# Altium footprint library Cap-Elec-8x9pcb.PcbLib: 1 footprints
Each footprint in its own frame and in the unit in brackets; x right, y up, seen from the top. Pads: shape width x height; smd on the part's side, far side on the other; paste and mask are expansions set on the pad; w line width, h text height; cw(c..) or ccw(c..) is an arc to the next point about the centre after c.
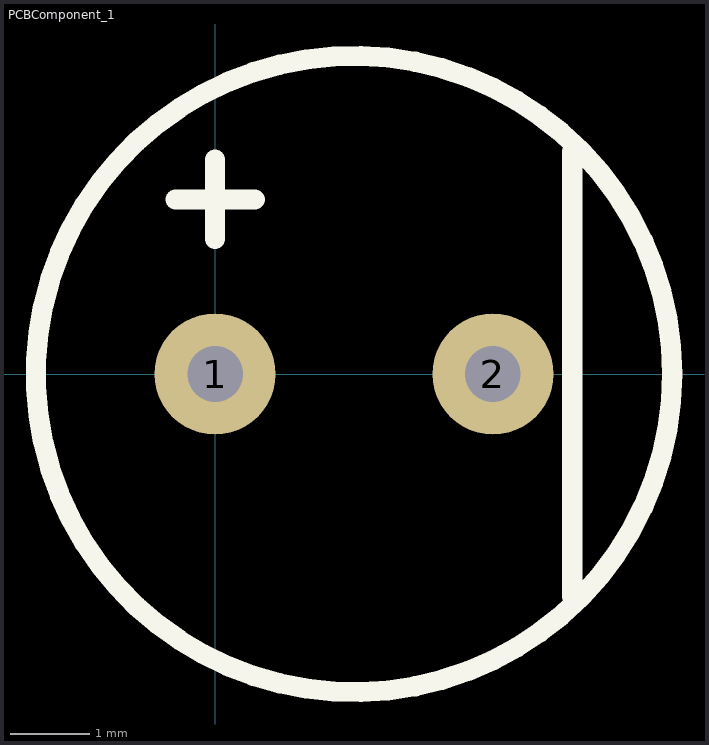
[diagram p0: the footprint, top view; thin cyan lines are the x and y axes]

## PCBComponent_1 [mil]
pads (2):
  round 60 hole 27.56: 1(0,0) 2(137.8,0)
Top Overlay:
  circle w10: c68.9,0 r157.79
  lines w10: -19.68,86.61 19.68,86.61 ; 0,66.93 0,106.3 ; 177.17,-110.24 177.17,110.24